# Altium footprint library BR3FB5L00.PcbLib: 1 footprints
Each footprint in its own frame and in the unit in brackets; x right, y up, seen from the top. Pads: shape width x height; smd on the part's side, far side on the other; paste and mask are expansions set on the pad; w line width, h text height; cw(c..) or ccw(c..) is an arc to the next point about the centre after c.
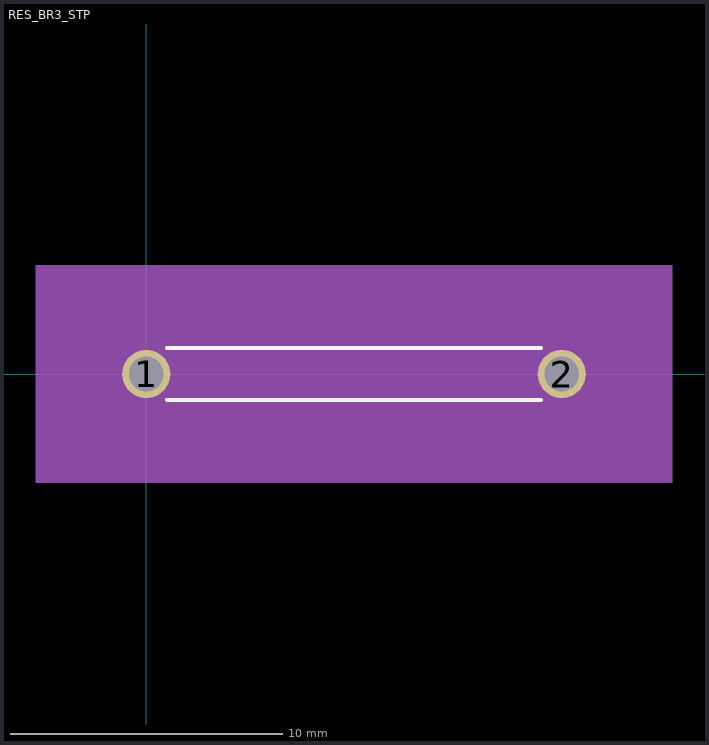
[diagram p0: the footprint, top view; thin cyan lines are the x and y axes]

## RES_BR3_STP [mil]
pads (2):
  round 70 hole 50 mask+0: 1(0,0) 2(602,0)
Top Overlay:
  lines w6: 30.12,-37.5 571.88,-37.5 ; 30.12,37.5 571.88,37.5
Mechanical 5:
  region: 762,-157.5 -160,-157.5 -160,157.5 762,157.5
Mechanical 13:
  lines w1: 0,-32.5 602,-32.5 602,32.5 0,32.5 0,-32.5 ; 0,0 0,0 ; 602,0 602,0
Mechanical 15:
  region: -10,-45 -45,-45 -45,45 -10,45 -10,42.5 612,42.5 612,45 647,45 647,-45 612,-45 612,-42.5 -10,-42.5
  region: 602,-32.5 0,-32.5 0,32.5 602,32.5
  lines w6: -45,-45 -45,45 -10,45 -10,42.5 612,42.5 612,45 647,45 647,-45 612,-45 612,-42.5 -10,-42.5 -10,-45 -45,-45
3D body "RES_BR3_STP.step": height 64.76, standoff -100, extent -40,-32.44 642.01,32.44